# EAGLE library part 431183008816 (library 434153017835_Eagle_WS-TASV_rev20a)
WS-TASV J-Bend SMT Tact Switch 5x5 mm with ground terminal Material Properties Cover Material : Stainless Steel Properties Actuator Material:LCP Actuator Flammability :UL94 V-0 Rating Actuator Color:Black; White Frame Material:LCP Flammability Rating:UL94 V-0 Frame Color:Black Contact Material:Stainless Steel Contact Plating:Silver Terminal Material:Copper Alloy Terminal Plating:Silver VR:15 V (DC) Contact Resistance Initial:100 mΩ Contact Resistance After Life Test:2Ω RISO:100 MΩ Withstanding Voltage:250 V (AC) Washable:No Qty.:4000;5000 Mechanical Properties Electrical Life:200000 Times; 1000000 Times Stroke :0.25 mm General Information Operating Temperature:-40 up to +85 °C Washable:No Packaging Properties Packaging:Tape and Reel <https://www.we-online.com/catalog/media/o70342v209%20Family_WS-TASV_Normal_SMD_J-Bend_4311x30xx8x6.jpg> Details see: https://www.we-online.com/catalog/en/TASV_5X5_J-BEND_SMD_WITH_GROUND_TERMINAL_4311x30xx8x6/ Updated by yingchun,Shan;2020-02-18 2020(C) Würth Elektronik
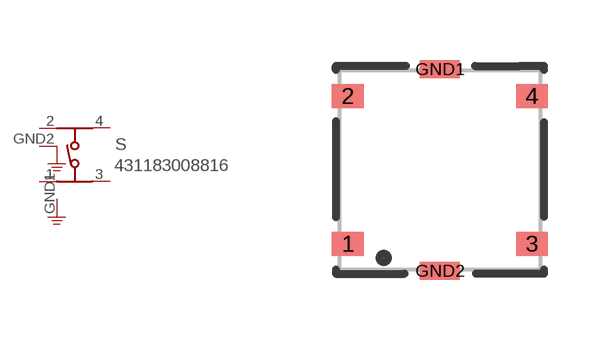
[diagram p6: symbol with the pads of 431183008816; footprint 431183008816]

Designator prefix S

## 431183008816 (DATASHEET-URL: https://www.we-online.com/catalog/datasheet/431183008816.pdf; H: 0.8mm; OPERATION-FORCE: 260g; PART-NUMBER: 431183008816; QTY: 5000)  [431183008816]
1  1  pas
2  2  pas
3  3  pas
4  4  pas
GND1  6  pas
GND2  5  pas

## Footprint 431183008816 (pad centres in mm)
WS-TASV 5x5 mm J-Bend SMD Tact Switch with ground terminal, 4 pins
smd 0.8 x 0.6: 1 -2.3,-1.85; 2 -2.3,1.85; 3 2.3,-1.85; 4 2.3,1.85
smd 1 x 0.45: GND1 0,2.525; GND2 0,-2.525